# Altium schematic symbol library EthernetControllers.SchLib: 1 symbol
Pins are listed as number, name and electrical type; pins without a type are passive.

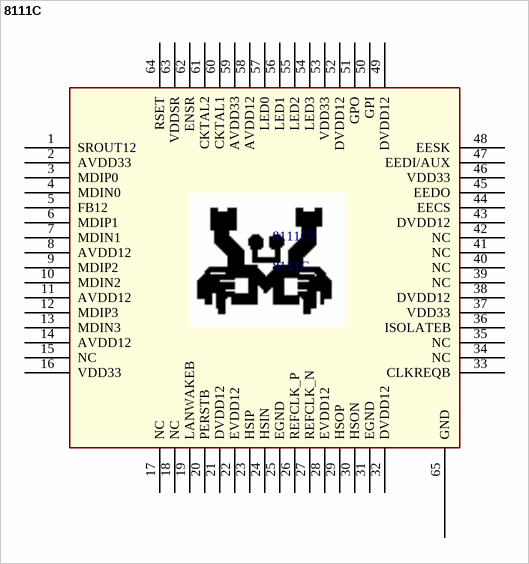
[diagram p0: symbol 8111C]

## 8111C
designator 8111C?
Realtek 8111C PCIe Gigabit Ethernet Controller
footprint QFN50P900X900X100-64N (QFN, 64-Leads, Body 9.0x9.0mm (max), Pitch 0.50mm, IPC Medium Density)
pins: 1 SROUT12, 2 AVDD33, 3 MDIP0, 4 MDIN0, 5 FB12, 6 MDIP1, 7 MDIN1, 8 AVDD12, 9 MDIP2, 10 MDIN2, 11 AVDD12, 12 MDIP3, 13 MDIN3, 14 AVDD12, 15 NC, 16 VDD33, 17 NC, 18 NC, 19 LANWAKEB, 20 PERSTB, 21 DVDD12 (power), 22 EVDD12 (power), 23 HSIP (power), 24 HSIN, 25 EGND, 26 REFCLK_P, 27 REFCLK_N, 28 EVDD12 (power), 29 HSOP (power), 30 HSON, 31 EGND, 32 DVDD12, 33 CLKREQB, 34 NC, 35 NC, 36 ISOLATEB, 37 VDD33, 38 DVDD12, 39 NC (hiz), 40 NC, 41 NC, 42 NC, 43 DVDD12, 44 EECS, 45 EEDO, 46 VDD33, 47 EEDI/AUX, 48 EESK, 49 DVDD12, 50 GPI (hiz), 51 GPO (hiz), 52 DVDD12, 53 VDD33, 54 LED3, 55 LED2, 56 LED1, 57 LED0, 58 AVDD12, 59 AVDD33, 60 CKTAL1, 61 CKTAL2, 62 ENSR, 63 VDDSR, 64 RSET, 65 GND